# Altium integrated library TAJA106K016RNJ.IntLib: 1 symbol
Pins are listed as number, name and electrical type; pins without a type are passive.

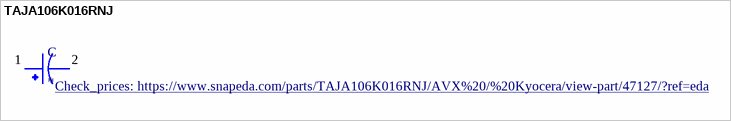
[diagram p0: symbol TAJA106K016RNJ]

## TAJA106K016RNJ
designator C
10ÂµF Molded Tantalum Capacitors 16V 1206 (3216 Metric) 3Ohm; MP: TAJA106K016RNJ; MF: AVX; Price: None; Availability: Warning; SnapEDA_Link: https://www.snapeda.com/parts/TAJA106K016RNJ/AVX%20/%20Kyocera/view-part/47127/?ref=snap; Arrow_Electronics-Purchase-URL: https://snapeda.com/shop?store=Arrow+Electronics&id=47127; Value: *; Mouser-Purchase-URL: https://snapeda.com/shop?store=Mouser&id=47127; Package: 1206 AVX; Check_prices: https://www.snapeda.com/parts/TAJA106K016RNJ/AVX%20/%20Kyocera/view-part/47127/?ref=eda
footprint CAPMP3216X180N
pins: 1, 2